# Altium footprint library TI Amplifiers and Linear Special Function Amplifier.PcbLib: 176 footprints (part 5 of 12)
Each footprint in its own frame and in the unit in brackets; x right, y up, seen from the top. Pads: shape width x height; smd on the part's side, far side on the other; paste and mask are expansions set on the pad; w line width, h text height; cw(c..) or ccw(c..) is an arc to the next point about the centre after c.
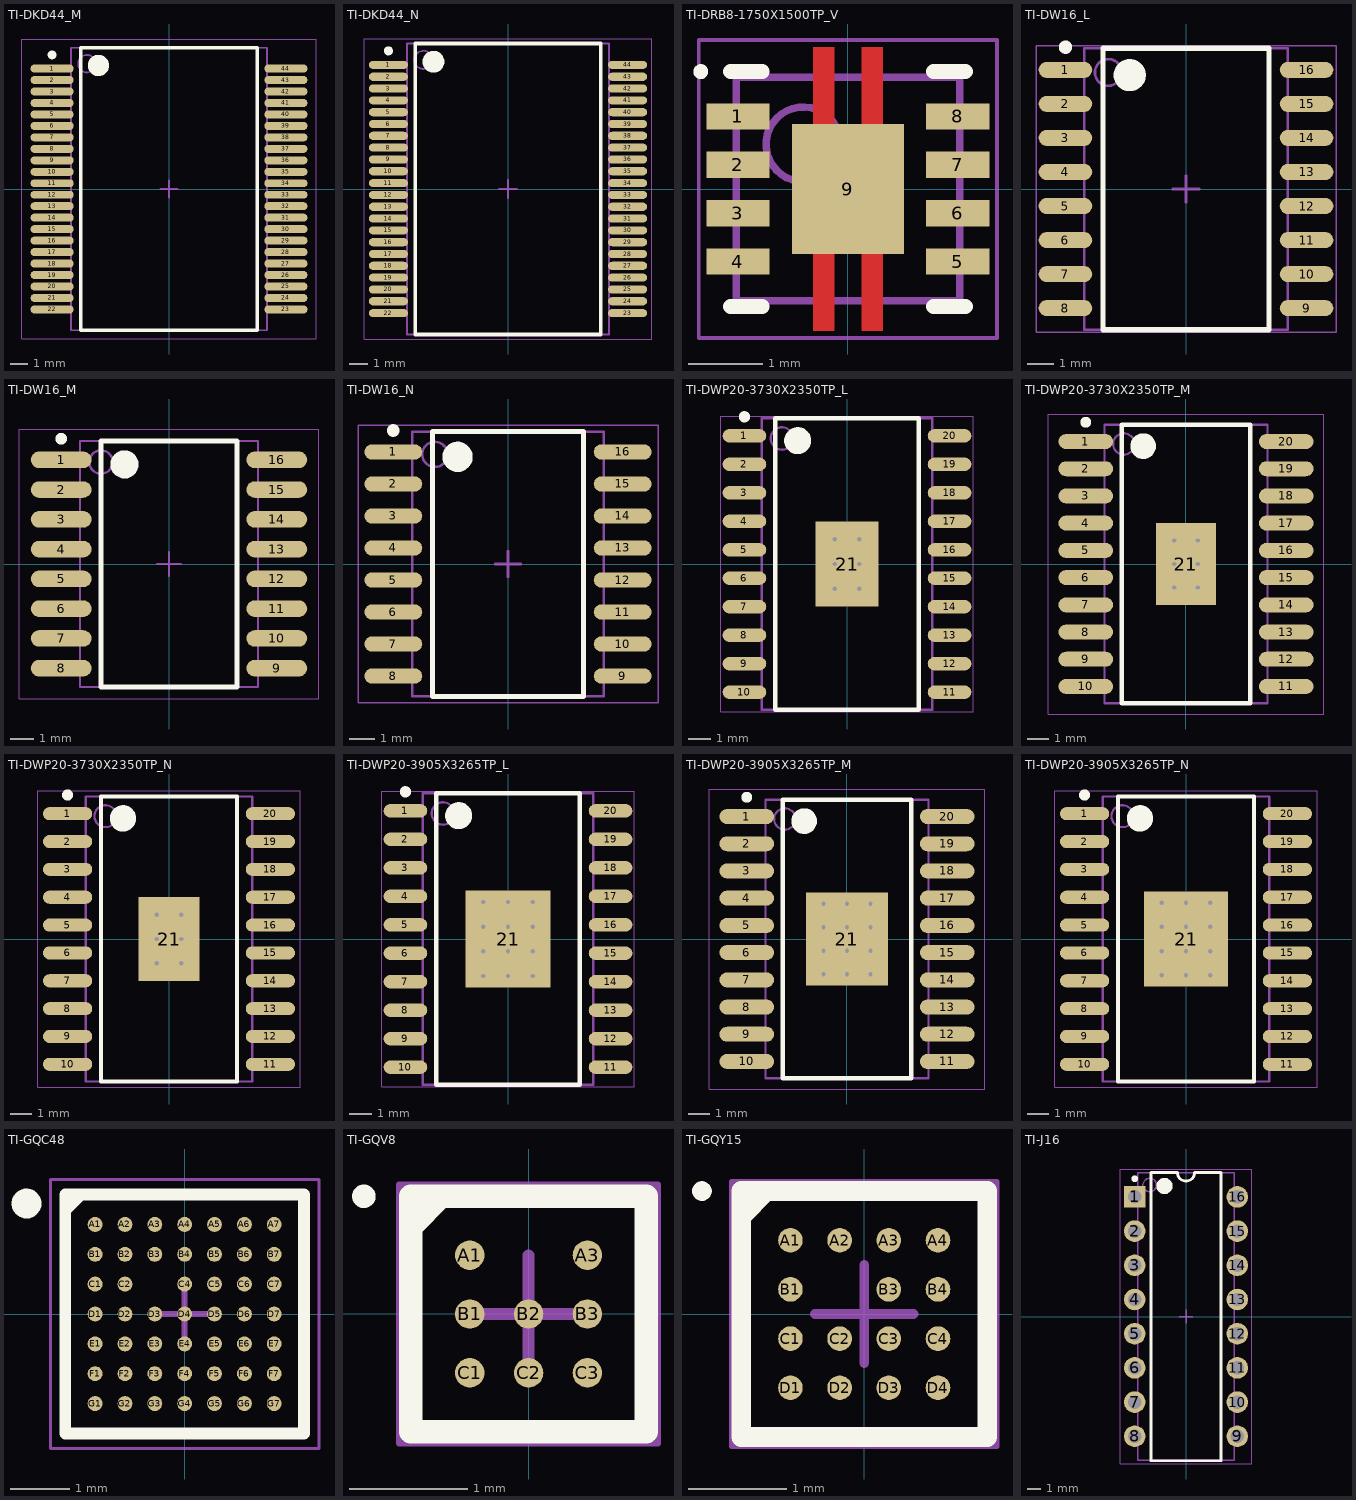
[diagram p4: the footprints below, top view; thin cyan lines are the x and y axes]

## TI-DKD44_M [mm] "SOP, 44-Leads, Body 15.9x11mm, Pitch 0.65mm, IPC Low Density"
height 4.05
pads (44):
  oval 2.45x0.45 smd: 1(-6.625,6.825) 2(-6.625,6.175) 3(-6.625,5.525) 4(-6.625,4.875) 5(-6.625,4.225) 6(-6.625,3.575) 7(-6.625,2.925) 8(-6.625,2.275) 9(-6.625,1.625) 10(-6.625,0.975) 11(-6.625,0.325) 12(-6.625,-0.325) 13(-6.625,-0.975) 14(-6.625,-1.625) 15(-6.625,-2.275) 16(-6.625,-2.925) 17(-6.625,-3.575) 18(-6.625,-4.225) 19(-6.625,-4.875) 20(-6.625,-5.525) 21(-6.625,-6.175) 22(-6.625,-6.825) 23(6.625,-6.825) 24(6.625,-6.175) 25(6.625,-5.525) 26(6.625,-4.875) 27(6.625,-4.225) 28(6.625,-3.575) 29(6.625,-2.925) 30(6.625,-2.275) 31(6.625,-1.625) 32(6.625,-0.975) 33(6.625,-0.325) 34(6.625,0.325) 35(6.625,0.975) 36(6.625,1.625) 37(6.625,2.275) 38(6.625,2.925) 39(6.625,3.575) 40(6.625,4.225) 41(6.625,4.875) 42(6.625,5.525) 43(6.625,6.175) 44(6.625,6.825)
Top Overlay:
  circle w0.25: c-6.625,7.6 r0.125
  circle w0.6: c-4,7 r0.3
  lines w0.2: -5,-8 -5,8 5,8 5,-8 -5,-8
Mechanical 13:
  circle w0.1: c-4.65,7.1 r0.5
  lines w0.1: -5.55,-8 -5.55,8 5.55,8 5.55,-8 -5.55,-8
Mechanical 15:
  lines w0.05: -8.35,-8.5 -8.35,8.5 8.35,8.5 8.35,-8.5 -8.35,-8.5
  lines w0.1: -0.5,0 0.5,0 ; 0,-0.5 0,0.5
3D body: height 4.05, standoff 0.1, extent -5.55,-8 5.55,8

## TI-DKD44_N [mm] "SOP, 44-Leads, Body 15.9x11mm, Pitch 0.65mm, IPC Medium Density"
height 4.05
pads (44):
  oval 2.15x0.45 smd: 1(-6.575,6.825) 2(-6.575,6.175) 3(-6.575,5.525) 4(-6.575,4.875) 5(-6.575,4.225) 6(-6.575,3.575) 7(-6.575,2.925) 8(-6.575,2.275) 9(-6.575,1.625) 10(-6.575,0.975) 11(-6.575,0.325) 12(-6.575,-0.325) 13(-6.575,-0.975) 14(-6.575,-1.625) 15(-6.575,-2.275) 16(-6.575,-2.925) 17(-6.575,-3.575) 18(-6.575,-4.225) 19(-6.575,-4.875) 20(-6.575,-5.525) 21(-6.575,-6.175) 22(-6.575,-6.825) 23(6.575,-6.825) 24(6.575,-6.175) 25(6.575,-5.525) 26(6.575,-4.875) 27(6.575,-4.225) 28(6.575,-3.575) 29(6.575,-2.925) 30(6.575,-2.275) 31(6.575,-1.625) 32(6.575,-0.975) 33(6.575,-0.325) 34(6.575,0.325) 35(6.575,0.975) 36(6.575,1.625) 37(6.575,2.275) 38(6.575,2.925) 39(6.575,3.575) 40(6.575,4.225) 41(6.575,4.875) 42(6.575,5.525) 43(6.575,6.175) 44(6.575,6.825)
Top Overlay:
  circle w0.25: c-6.575,7.6 r0.125
  circle w0.6: c-4.1,7 r0.3
  lines w0.2: -5.1,-8 -5.1,8 5.1,8 5.1,-8 -5.1,-8
Mechanical 13:
  circle w0.1: c-4.65,7.1 r0.5
  lines w0.1: -5.55,-8 -5.55,8 5.55,8 5.55,-8 -5.55,-8
Mechanical 15:
  lines w0.05: -7.9,-8.25 -7.9,8.25 7.9,8.25 7.9,-8.25 -7.9,-8.25
  lines w0.1: -0.5,0 0.5,0 ; 0,-0.5 0,0.5
3D body: height 4.05, standoff 0.1, extent -5.55,-8 5.55,8

## TI-DRB8-1750X1500TP_V [mm] "SON, 8-Leads, Body 3x3mm, Pitch 0.65mm, Thermal Pad 1.50 x 3.8mm"
height 1
pads (9):
  rect 0.85x0.35 smd: 1(-1.475,0.975) 2(-1.475,0.325) 3(-1.475,-0.325) 4(-1.475,-0.975) 5(1.475,-0.975) 6(1.475,-0.325) 7(1.475,0.325) 8(1.475,0.975)
  rect 1.5x1.75 smd: 9(0,0)
Top Layer:
  region: -0.185,0.875 -0.185,1.9 -0.465,1.9 -0.465,0.875
  region: 0.185,-0.875 0.185,-1.9 0.465,-1.9 0.465,-0.875
  region: -0.185,-0.875 -0.185,-1.9 -0.465,-1.9 -0.465,-0.875
  region: 0.185,0.875 0.185,1.9 0.465,1.9 0.465,0.875
Top Overlay:
  circle w0.1: c-1.975,1.575 r0.05
  lines w0.2: -1.575,-1.575 -1.15,-1.575 ; -1.575,1.575 -1.15,1.575 ; 1.15,-1.575 1.575,-1.575 ; 1.15,1.575 1.575,1.575
Top Paste:
  region: 0.185,0.875 0.185,1.9 0.465,1.9 0.465,0.875
  region: -0.185,-0.875 -0.185,-1.9 -0.465,-1.9 -0.465,-0.875
  region: 0.185,-0.875 0.185,-1.9 0.465,-1.9 0.465,-0.875
  region: -0.185,0.875 -0.185,1.9 -0.465,1.9 -0.465,0.875
Mechanical 13:
  circle w0.1: c-0.6,0.6 r0.5
  lines w0.1: -1.5,-1.5 1.5,-1.5 1.5,1.5 -1.5,1.5 -1.5,-1.5
Mechanical 15:
  lines w0.05: -2,-2 -2,-1.675 -2,1.675 -2,2 2,2 2,1.675 2,-1.675 2,-2 -2,-2
  lines w0.1: -0.5,0 0.5,0 ; 0,-0.5 0,0.5
3D body: height 1, standoff 0, extent -1.5,-1.5 1.5,1.5

## TI-DW16_L [mm] "SOIC, 16-Leads, Body 10.5x7.6mm, Pitch 1.27mm, IPC High Density"
height 2.65
pads (16):
  oval 2x0.6 smd: 1(-4.5,4.445) 2(-4.5,3.175) 3(-4.5,1.905) 4(-4.5,0.635) 5(-4.5,-0.635) 6(-4.5,-1.905) 7(-4.5,-3.175) 8(-4.5,-4.445) 9(4.5,-4.445) 10(4.5,-3.175) 11(4.5,-1.905) 12(4.5,-0.635) 13(4.5,0.635) 14(4.5,1.905) 15(4.5,3.175) 16(4.5,4.445)
Top Overlay:
  circle w0.6: c-2.1,4.25 r0.3
  circle w0.25: c-4.5,5.295 r0.125
  lines w0.2: -3.1,-5.25 3.1,-5.25 3.1,5.25 -3.1,5.25 -3.1,-5.25
Mechanical 13:
  circle w0.1: c-2.9,4.35 r0.5
  lines w0.1: -3.8,-5.25 3.8,-5.25 3.8,5.25 -3.8,5.25 -3.8,-5.25
Mechanical 15:
  lines w0.05: -5.6,-5.35 5.6,-5.35 5.6,5.35 -5.6,5.35 -5.6,-5.35
  lines w0.1: -0.5,0 0.5,0 ; 0,-0.5 0,0.5
3D body: height 2.65, standoff 0.1, extent -3.8,-5.25 3.8,5.25

## TI-DW16_M [mm] "SOIC, 16-Leads, Body 10.5x7.6mm, Pitch 1.27mm, IPC Low Density"
height 2.65
pads (16):
  oval 2.6x0.7 smd: 1(-4.6,4.445) 2(-4.6,3.175) 3(-4.6,1.905) 4(-4.6,0.635) 5(-4.6,-0.635) 6(-4.6,-1.905) 7(-4.6,-3.175) 8(-4.6,-4.445) 9(4.6,-4.445) 10(4.6,-3.175) 11(4.6,-1.905) 12(4.6,-0.635) 13(4.6,0.635) 14(4.6,1.905) 15(4.6,3.175) 16(4.6,4.445)
Top Overlay:
  circle w0.25: c-4.6,5.345 r0.125
  circle w0.6: c-1.9,4.25 r0.3
  lines w0.2: -2.9,-5.25 -2.9,5.25 2.9,5.25 2.9,-5.25 -2.9,-5.25
Mechanical 13:
  circle w0.1: c-2.9,4.35 r0.5
  lines w0.1: -3.8,-5.25 -3.8,5.25 3.8,5.25 3.8,-5.25 -3.8,-5.25
Mechanical 15:
  lines w0.05: -6.4,-5.75 -6.4,5.75 6.4,5.75 6.4,-5.75 -6.4,-5.75
  lines w0.1: -0.5,0 0.5,0 ; 0,-0.5 0,0.5
3D body: height 2.65, standoff 0.1, extent -3.8,-5.25 3.8,5.25

## TI-DW16_N [mm] "SOIC, 16-Leads, Body 10.5x7.6mm, Pitch 1.27mm, IPC Medium Density"
height 2.65
pads (16):
  oval 2.3x0.6 smd: 1(-4.55,4.445) 2(-4.55,3.175) 3(-4.55,1.905) 4(-4.55,0.635) 5(-4.55,-0.635) 6(-4.55,-1.905) 7(-4.55,-3.175) 8(-4.55,-4.445) 9(4.55,-4.445) 10(4.55,-3.175) 11(4.55,-1.905) 12(4.55,-0.635) 13(4.55,0.635) 14(4.55,1.905) 15(4.55,3.175) 16(4.55,4.445)
Top Overlay:
  circle w0.25: c-4.55,5.295 r0.125
  circle w0.6: c-2,4.25 r0.3
  lines w0.2: -3,-5.25 -3,5.25 3,5.25 3,-5.25 -3,-5.25
Mechanical 13:
  circle w0.1: c-2.9,4.35 r0.5
  lines w0.1: -3.8,-5.25 -3.8,5.25 3.8,5.25 3.8,-5.25 -3.8,-5.25
Mechanical 15:
  lines w0.05: -5.95,-5.5 -5.95,5.5 5.95,5.5 5.95,-5.5 -5.95,-5.5
  lines w0.1: -0.5,0 0.5,0 ; 0,-0.5 0,0.5
3D body: height 2.65, standoff 0.1, extent -3.8,-5.25 3.8,5.25

## TI-DWP20-3730X2350TP_L [mm] "SOP, 20-Leads, Body 12.825x7.52mm, Pitch 1.27mm, Thermal Pad 3.47X2.35mm, IPC High Density"
height 2.65
pads (21):
  oval 1.95x0.6 smd: 1(-4.575,5.715) 2(-4.575,4.445) 3(-4.575,3.175) 4(-4.575,1.905) 5(-4.575,0.635) 6(-4.575,-0.635) 7(-4.575,-1.905) 8(-4.575,-3.175) 9(-4.575,-4.445) 10(-4.575,-5.715) 11(4.575,-5.715) 12(4.575,-4.445) 13(4.575,-3.175) 14(4.575,-1.905) 15(4.575,-0.635) 16(4.575,0.635) 17(4.575,1.905) 18(4.575,3.175) 19(4.575,4.445) 20(4.575,5.715)
  rect 2.79x3.81 smd: 21(0,0)
via -0.55,1.1 diameter 0.5 hole 0.2
via 0.55,1.1 diameter 0.5 hole 0.2
via -0.55,0 diameter 0.5 hole 0.2
via 0.55,0 diameter 0.5 hole 0.2
via -0.55,-1.1 diameter 0.5 hole 0.2
via 0.55,-1.1 diameter 0.5 hole 0.2
Top Overlay:
  circle w0.25: c-4.575,6.565 r0.125
  circle w0.6: c-2.2,5.5 r0.3
  lines w0.2: -3.2,-6.5 -3.2,6.5 3.2,6.5 3.2,-6.5 -3.2,-6.5
Mechanical 13:
  circle w0.1: c-2.9,5.6 r0.5
  lines w0.1: -3.8,-6.5 -3.8,6.5 3.8,6.5 3.8,-6.5 -3.8,-6.5
Mechanical 15:
  lines w0.05: -5.625,-6.6 -5.625,6.6 5.625,6.6 5.625,-6.6 -5.625,-6.6
  lines w0.1: -0.5,0 0.5,0 ; 0,-0.5 0,0.5
3D body: height 2.65, standoff 0.05, extent -3.8,-6.5 3.8,6.5

## TI-DWP20-3730X2350TP_M [mm] "SOP, 20-Leads, Body 12.825x7.52mm, Pitch 1.27mm, Thermal Pad 3.47X2.35mm, IPC Low Density"
height 2.65
pads (21):
  oval 2.55x0.7 smd: 1(-4.675,5.715) 2(-4.675,4.445) 3(-4.675,3.175) 4(-4.675,1.905) 5(-4.675,0.635) 6(-4.675,-0.635) 7(-4.675,-1.905) 8(-4.675,-3.175) 9(-4.675,-4.445) 10(-4.675,-5.715) 11(4.675,-5.715) 12(4.675,-4.445) 13(4.675,-3.175) 14(4.675,-1.905) 15(4.675,-0.635) 16(4.675,0.635) 17(4.675,1.905) 18(4.675,3.175) 19(4.675,4.445) 20(4.675,5.715)
  rect 2.79x3.81 smd: 21(0,0)
via -0.55,1.1 diameter 0.5 hole 0.2
via 0.55,1.1 diameter 0.5 hole 0.2
via -0.55,0 diameter 0.5 hole 0.2
via 0.55,0 diameter 0.5 hole 0.2
via -0.55,-1.1 diameter 0.5 hole 0.2
via 0.55,-1.1 diameter 0.5 hole 0.2
Top Overlay:
  circle w0.25: c-4.675,6.615 r0.125
  circle w0.6: c-2,5.5 r0.3
  lines w0.2: -3,-6.5 -3,6.5 3,6.5 3,-6.5 -3,-6.5
Mechanical 13:
  circle w0.1: c-2.9,5.6 r0.5
  lines w0.1: -3.8,-6.5 -3.8,6.5 3.8,6.5 3.8,-6.5 -3.8,-6.5
Mechanical 15:
  lines w0.05: -6.425,-7 -6.425,7 6.425,7 6.425,-7 -6.425,-7
  lines w0.1: -0.5,0 0.5,0 ; 0,-0.5 0,0.5
3D body: height 2.65, standoff 0.05, extent -3.8,-6.5 3.8,6.5

## TI-DWP20-3730X2350TP_N [mm] "SOP, 20-Leads, Body 12.825x7.52mm, Pitch 1.27mm, Thermal Pad 3.47X2.35mm, IPC Medium Density"
height 2.65
pads (21):
  oval 2.25x0.6 smd: 1(-4.625,5.715) 2(-4.625,4.445) 3(-4.625,3.175) 4(-4.625,1.905) 5(-4.625,0.635) 6(-4.625,-0.635) 7(-4.625,-1.905) 8(-4.625,-3.175) 9(-4.625,-4.445) 10(-4.625,-5.715) 11(4.625,-5.715) 12(4.625,-4.445) 13(4.625,-3.175) 14(4.625,-1.905) 15(4.625,-0.635) 16(4.625,0.635) 17(4.625,1.905) 18(4.625,3.175) 19(4.625,4.445) 20(4.625,5.715)
  rect 2.79x3.81 smd: 21(0,0)
via -0.55,1.1 diameter 0.5 hole 0.2
via 0.55,1.1 diameter 0.5 hole 0.2
via -0.55,0 diameter 0.5 hole 0.2
via 0.55,0 diameter 0.5 hole 0.2
via -0.55,-1.1 diameter 0.5 hole 0.2
via 0.55,-1.1 diameter 0.5 hole 0.2
Top Overlay:
  circle w0.25: c-4.625,6.565 r0.125
  circle w0.6: c-2.1,5.5 r0.3
  lines w0.2: -3.1,-6.5 -3.1,6.5 3.1,6.5 3.1,-6.5 -3.1,-6.5
Mechanical 13:
  circle w0.1: c-2.9,5.6 r0.5
  lines w0.1: -3.8,-6.5 -3.8,6.5 3.8,6.5 3.8,-6.5 -3.8,-6.5
Mechanical 15:
  lines w0.05: -5.975,-6.75 -5.975,6.75 5.975,6.75 5.975,-6.75 -5.975,-6.75
  lines w0.1: -0.5,0 0.5,0 ; 0,-0.5 0,0.5
3D body: height 2.65, standoff 0.05, extent -3.8,-6.5 3.8,6.5

## TI-DWP20-3905X3265TP_L [mm] "SOP, 20-Leads, Body 12.83x7.52mm, Pitch 1.27mm, Thermal Pad 4.32x3.81mm, IPC High Density"
height 2.65
pads (21):
  oval 1.95x0.6 smd: 1(-4.575,5.715) 2(-4.575,4.445) 3(-4.575,3.175) 4(-4.575,1.905) 5(-4.575,0.635) 6(-4.575,-0.635) 7(-4.575,-1.905) 8(-4.575,-3.175) 9(-4.575,-4.445) 10(-4.575,-5.715) 11(4.575,-5.715) 12(4.575,-4.445) 13(4.575,-3.175) 14(4.575,-1.905) 15(4.575,-0.635) 16(4.575,0.635) 17(4.575,1.905) 18(4.575,3.175) 19(4.575,4.445) 20(4.575,5.715)
  rect 3.81x4.32 smd: 21(0,0)
via -1.1,1.65 diameter 0.5 hole 0.2
via 0,1.65 diameter 0.5 hole 0.2
via 1.1,1.65 diameter 0.5 hole 0.2
via -1.1,0.55 diameter 0.5 hole 0.2
via 0,0.55 diameter 0.5 hole 0.2
via 1.1,0.55 diameter 0.5 hole 0.2
via -1.1,-0.55 diameter 0.5 hole 0.2
via 0,-0.55 diameter 0.5 hole 0.2
via 1.1,-0.55 diameter 0.5 hole 0.2
via -1.1,-1.65 diameter 0.5 hole 0.2
via 0,-1.65 diameter 0.5 hole 0.2
via 1.1,-1.65 diameter 0.5 hole 0.2
Top Overlay:
  circle w0.25: c-4.575,6.565 r0.125
  circle w0.6: c-2.2,5.5 r0.3
  lines w0.2: -3.2,-6.5 -3.2,6.5 3.2,6.5 3.2,-6.5 -3.2,-6.5
Mechanical 13:
  circle w0.1: c-2.9,5.6 r0.5
  lines w0.1: -3.8,-6.5 -3.8,6.5 3.8,6.5 3.8,-6.5 -3.8,-6.5
Mechanical 15:
  lines w0.05: -5.625,-6.6 -5.625,6.6 5.625,6.6 5.625,-6.6 -5.625,-6.6
  lines w0.1: -0.5,0 0.5,0 ; 0,-0.5 0,0.5
3D body: height 2.65, standoff 0.05, extent -3.8,-6.5 3.8,6.5

## TI-DWP20-3905X3265TP_M [mm] "SOP, 20-Leads, Body 12.83x7.52mm, Pitch 1.27mm, Thermal Pad 4.32x3.81mm, IPC Low Density"
height 2.65
pads (21):
  oval 2.55x0.7 smd: 1(-4.675,5.715) 2(-4.675,4.445) 3(-4.675,3.175) 4(-4.675,1.905) 5(-4.675,0.635) 6(-4.675,-0.635) 7(-4.675,-1.905) 8(-4.675,-3.175) 9(-4.675,-4.445) 10(-4.675,-5.715) 11(4.675,-5.715) 12(4.675,-4.445) 13(4.675,-3.175) 14(4.675,-1.905) 15(4.675,-0.635) 16(4.675,0.635) 17(4.675,1.905) 18(4.675,3.175) 19(4.675,4.445) 20(4.675,5.715)
  rect 3.81x4.32 smd: 21(0,0)
via -1.1,1.65 diameter 0.5 hole 0.2
via 0,1.65 diameter 0.5 hole 0.2
via 1.1,1.65 diameter 0.5 hole 0.2
via -1.1,0.55 diameter 0.5 hole 0.2
via 0,0.55 diameter 0.5 hole 0.2
via 1.1,0.55 diameter 0.5 hole 0.2
via -1.1,-0.55 diameter 0.5 hole 0.2
via 0,-0.55 diameter 0.5 hole 0.2
via 1.1,-0.55 diameter 0.5 hole 0.2
via -1.1,-1.65 diameter 0.5 hole 0.2
via 0,-1.65 diameter 0.5 hole 0.2
via 1.1,-1.65 diameter 0.5 hole 0.2
Top Overlay:
  circle w0.25: c-4.675,6.615 r0.125
  circle w0.6: c-2,5.5 r0.3
  lines w0.2: -3,-6.5 -3,6.5 3,6.5 3,-6.5 -3,-6.5
Mechanical 13:
  circle w0.1: c-2.9,5.6 r0.5
  lines w0.1: -3.8,-6.5 -3.8,6.5 3.8,6.5 3.8,-6.5 -3.8,-6.5
Mechanical 15:
  lines w0.05: -6.425,-7 -6.425,7 6.425,7 6.425,-7 -6.425,-7
  lines w0.1: -0.5,0 0.5,0 ; 0,-0.5 0,0.5
3D body: height 2.65, standoff 0.05, extent -3.8,-6.5 3.8,6.5

## TI-DWP20-3905X3265TP_N [mm] "SOP, 20-Leads, Body 12.83x7.52mm, Pitch 1.27mm, Thermal Pad 4.32x3.81mm, IPC Medium Density"
height 2.65
pads (21):
  oval 2.25x0.6 smd: 1(-4.625,5.715) 2(-4.625,4.445) 3(-4.625,3.175) 4(-4.625,1.905) 5(-4.625,0.635) 6(-4.625,-0.635) 7(-4.625,-1.905) 8(-4.625,-3.175) 9(-4.625,-4.445) 10(-4.625,-5.715) 11(4.625,-5.715) 12(4.625,-4.445) 13(4.625,-3.175) 14(4.625,-1.905) 15(4.625,-0.635) 16(4.625,0.635) 17(4.625,1.905) 18(4.625,3.175) 19(4.625,4.445) 20(4.625,5.715)
  rect 3.81x4.32 smd: 21(0,0)
via -1.1,1.65 diameter 0.5 hole 0.2
via 0,1.65 diameter 0.5 hole 0.2
via 1.1,1.65 diameter 0.5 hole 0.2
via -1.1,0.55 diameter 0.5 hole 0.2
via 0,0.55 diameter 0.5 hole 0.2
via 1.1,0.55 diameter 0.5 hole 0.2
via -1.1,-0.55 diameter 0.5 hole 0.2
via 0,-0.55 diameter 0.5 hole 0.2
via 1.1,-0.55 diameter 0.5 hole 0.2
via -1.1,-1.65 diameter 0.5 hole 0.2
via 0,-1.65 diameter 0.5 hole 0.2
via 1.1,-1.65 diameter 0.5 hole 0.2
Top Overlay:
  circle w0.25: c-4.625,6.565 r0.125
  circle w0.6: c-2.1,5.5 r0.3
  lines w0.2: -3.1,-6.5 -3.1,6.5 3.1,6.5 3.1,-6.5 -3.1,-6.5
Mechanical 13:
  circle w0.1: c-2.9,5.6 r0.5
  lines w0.1: -3.8,-6.5 -3.8,6.5 3.8,6.5 3.8,-6.5 -3.8,-6.5
Mechanical 15:
  lines w0.05: -5.975,-6.75 -5.975,6.75 5.975,6.75 5.975,-6.75 -5.975,-6.75
  lines w0.1: -0.5,0 0.5,0 ; 0,-0.5 0,0.5
3D body: height 2.65, standoff 0.05, extent -3.8,-6.5 3.8,6.5

## TI-GQC48 [mm] "BGA, 48-Balls, Body 4x4mm, Pitch 0.5mm"
height 1
pads (48):
  round 0.25 smd: A1(-1.5,1.5) A2(-1,1.5) A3(-0.5,1.5) A4(0,1.5) A5(0.5,1.5) A6(1,1.5) A7(1.5,1.5) B1(-1.5,1) B2(-1,1) B3(-0.5,1) B4(0,1) B5(0.5,1) B6(1,1) B7(1.5,1) C1(-1.5,0.5) C2(-1,0.5) C4(0,0.5) C5(0.5,0.5) C6(1,0.5) C7(1.5,0.5) D1(-1.5,0) D2(-1,0) D3(-0.5,0) D4(0,0) D5(0.5,0) D6(1,0) D7(1.5,0) E1(-1.5,-0.5) E2(-1,-0.5) E3(-0.5,-0.5) E4(0,-0.5) E5(0.5,-0.5) E6(1,-0.5) E7(1.5,-0.5) F1(-1.5,-1) F2(-1,-1) F3(-0.5,-1) F4(0,-1) F5(0.5,-1) F6(1,-1) F7(1.5,-1) G1(-1.5,-1.5) G2(-1,-1.5) G3(-0.5,-1.5) G4(0,-1.5) G5(0.5,-1.5) G6(1,-1.5) G7(1.5,-1.5)
Top Overlay:
  circle w0.25: c-2.65,1.85 r0.125
  region: -1.742,2 -2,1.742 -2,2
  lines w0.2: -2,1.742 -1.742,2 ; -2,-2 2,-2 2,2 -2,2 -2,-2
Mechanical 13:
  lines w0.1: -2,-2 2,-2 2,2 -2,2 -2,-2
Mechanical 15:
  lines w0.05: -2.25,-2.25 2.25,-2.25 2.25,2.25 -2.25,2.25 -2.25,-2.25
  lines w0.1: -0.5,0 0.5,0 ; 0,-0.5 0,0.5
3D body: height 1, standoff 0.15, extent -2,-2 2,2

## TI-GQV8 [mm] "BGA, 8-Balls, Body 2x2mm, Pitch 0.5mm"
height 1
pads (8):
  round 0.25 smd: A1(-0.5,0.5) A3(0.5,0.5) B1(-0.5,0) B2(0,0) B3(0.5,0) C1(-0.5,-0.5) C2(0,-0.5) C3(0.5,-0.5)
Top Overlay:
  circle w0.1: c-1.4,1 r0.05
  region: -0.742,1 -1,0.742 -1,1
  lines w0.2: -1,0.742 -0.742,1 ; -1,-1 -1,1 1,1 1,-1 -1,-1
Mechanical 13:
  lines w0.1: -1,-1 -1,1 1,1 1,-1 -1,-1
Mechanical 15:
  lines w0.05: -1.1,-1.1 -1.1,1.1 1.1,1.1 1.1,-1.1 -1.1,-1.1
  lines w0.1: -0.5,0 0.5,0 ; 0,-0.5 0,0.5
3D body: height 1, standoff 0.15, extent -1,-1 1,1

## TI-GQY15 [mm] "BGA, 15-Balls, Body 2.5x2.5mm, Pitch 0.5mm"
height 1
pads (15):
  round 0.25 smd: A1(-0.75,0.75) A2(-0.25,0.75) A3(0.25,0.75) A4(0.75,0.75) B1(-0.75,0.25) B3(0.25,0.25) B4(0.75,0.25) C1(-0.75,-0.25) C2(-0.25,-0.25) C3(0.25,-0.25) C4(0.75,-0.25) D1(-0.75,-0.75) D2(-0.25,-0.75) D3(0.25,-0.75) D4(0.75,-0.75)
Top Overlay:
  circle w0.1: c-1.65,1.25 r0.05
  region: -0.992,1.25 -1.25,0.992 -1.25,1.25
  lines w0.2: -1.25,0.992 -0.992,1.25 ; -1.25,-1.25 -1.25,1.25 1.25,1.25 1.25,-1.25 -1.25,-1.25
Mechanical 13:
  lines w0.1: -1.25,-1.25 -1.25,1.25 1.25,1.25 1.25,-1.25 -1.25,-1.25
Mechanical 15:
  lines w0.05: -1.35,-1.35 -1.35,1.35 1.35,1.35 1.35,-1.35 -1.35,-1.35
  lines w0.1: -0.5,0 0.5,0 ; 0,-0.5 0,0.5
3D body: height 1, standoff 0.15, extent -1.25,-1.25 1.25,1.25

## TI-J16 [mm] "DIP, 16-Leads, Body 21.34x6.92 mm, Pitch 2.54 mm"
height 5.08
pads (16):
  rect 1.6x1.6 hole 1: 1(-3.81,8.89)
  round 1.6 hole 1: 2(-3.81,6.35) 3(-3.81,3.81) 4(-3.81,1.27) 5(-3.81,-1.27) 6(-3.81,-3.81) 7(-3.81,-6.35) 8(-3.81,-8.89) 9(3.81,-8.89) 10(3.81,-6.35) 11(3.81,-3.81) 12(3.81,-1.27) 13(3.81,1.27) 14(3.81,3.81) 15(3.81,6.35) 16(3.81,8.89)
Top Overlay:
  circle w0.25: c-3.81,10.24 r0.125
  circle w0.6: c-1.6,9.7 r0.3
  lines w0.2: -2.6,-10.7 -2.6,10.7 -0.635,10.7 ccw(c0,10.7) 0.635,10.7 2.6,10.7 2.6,-10.7 -2.6,-10.7
Mechanical 13:
  circle w0.1: c-2.7,9.775 r0.5
  lines w0.1: -3.6,-10.675 -3.6,10.675 3.6,10.675 3.6,-10.675 -3.6,-10.675
Mechanical 15:
  lines w0.05: -4.9,-10.95 -4.9,10.95 4.9,10.95 4.9,-10.95 -4.9,-10.95
  lines w0.1: -0.5,0 0.5,0 ; 0,-0.5 0,0.5
3D body: height 2.58, standoff 0, extent -3.96,8.34 -3.66,9.44
3D body: height 2.88, standoff 2.58, extent -3.96,8.34 -3.6,9.44
3D body: height 0, standoff -1.6, extent -3.96,8.49 -3.66,9.29
3D body: height 2.58, standoff 0, extent -3.96,5.8 -3.66,6.9
3D body: height 2.88, standoff 2.58, extent -3.96,5.8 -3.6,6.9
3D body: height 0, standoff -1.6, extent -3.96,5.95 -3.66,6.75
3D body: height 2.58, standoff 0, extent -3.96,3.26 -3.66,4.36
3D body: height 2.88, standoff 2.58, extent -3.96,3.26 -3.6,4.36
3D body: height 0, standoff -1.6, extent -3.96,3.41 -3.66,4.21
3D body: height 2.58, standoff 0, extent -3.96,0.72 -3.66,1.82
3D body: height 2.88, standoff 2.58, extent -3.96,0.72 -3.6,1.82
3D body: height 0, standoff -1.6, extent -3.96,0.87 -3.66,1.67
3D body: height 2.58, standoff 0, extent -3.96,-1.82 -3.66,-0.72
3D body: height 2.88, standoff 2.58, extent -3.96,-1.82 -3.6,-0.72
3D body: height 0, standoff -1.6, extent -3.96,-1.67 -3.66,-0.87
3D body: height 2.58, standoff 0, extent -3.96,-4.36 -3.66,-3.26
3D body: height 2.88, standoff 2.58, extent -3.96,-4.36 -3.6,-3.26
3D body: height 0, standoff -1.6, extent -3.96,-4.21 -3.66,-3.41
3D body: height 2.58, standoff 0, extent -3.96,-6.9 -3.66,-5.8
3D body: height 2.88, standoff 2.58, extent -3.96,-6.9 -3.6,-5.8
3D body: height 0, standoff -1.6, extent -3.96,-6.75 -3.66,-5.95
3D body: height 2.58, standoff 0, extent -3.96,-9.44 -3.66,-8.34
3D body: height 2.88, standoff 2.58, extent -3.96,-9.44 -3.6,-8.34
3D body: height 0, standoff -1.6, extent -3.96,-9.29 -3.66,-8.49
3D body: height 2.58, standoff 0, extent 3.66,-9.44 3.96,-8.34
3D body: height 2.88, standoff 2.58, extent 3.6,-9.44 3.96,-8.34
3D body: height 0, standoff -1.6, extent 3.66,-9.29 3.96,-8.49
3D body: height 2.58, standoff 0, extent 3.66,-6.9 3.96,-5.8
3D body: height 2.88, standoff 2.58, extent 3.6,-6.9 3.96,-5.8
3D body: height 0, standoff -1.6, extent 3.66,-6.75 3.96,-5.95
3D body: height 2.58, standoff 0, extent 3.66,-4.36 3.96,-3.26
3D body: height 2.88, standoff 2.58, extent 3.6,-4.36 3.96,-3.26
3D body: height 0, standoff -1.6, extent 3.66,-4.21 3.96,-3.41
3D body: height 2.58, standoff 0, extent 3.66,-1.82 3.96,-0.72
3D body: height 2.88, standoff 2.58, extent 3.6,-1.82 3.96,-0.72
3D body: height 0, standoff -1.6, extent 3.66,-1.67 3.96,-0.87
3D body: height 2.58, standoff 0, extent 3.66,0.72 3.96,1.82
3D body: height 2.88, standoff 2.58, extent 3.6,0.72 3.96,1.82
3D body: height 0, standoff -1.6, extent 3.66,0.87 3.96,1.67
3D body: height 2.58, standoff 0, extent 3.66,3.26 3.96,4.36
3D body: height 2.88, standoff 2.58, extent 3.6,3.26 3.96,4.36
3D body: height 0, standoff -1.6, extent 3.66,3.41 3.96,4.21
3D body: height 2.58, standoff 0, extent 3.66,5.8 3.96,6.9
3D body: height 2.88, standoff 2.58, extent 3.6,5.8 3.96,6.9
3D body: height 0, standoff -1.6, extent 3.66,5.95 3.96,6.75
3D body: height 2.58, standoff 0, extent 3.66,8.34 3.96,9.44
3D body: height 2.88, standoff 2.58, extent 3.6,8.34 3.96,9.44
3D body: height 0, standoff -1.6, extent 3.66,8.49 3.96,9.29
3D body: height 5.08, standoff 0.38, extent -3.6,-10.675 3.6,10.675